# EAGLE library part ADS130B04 (library Public)
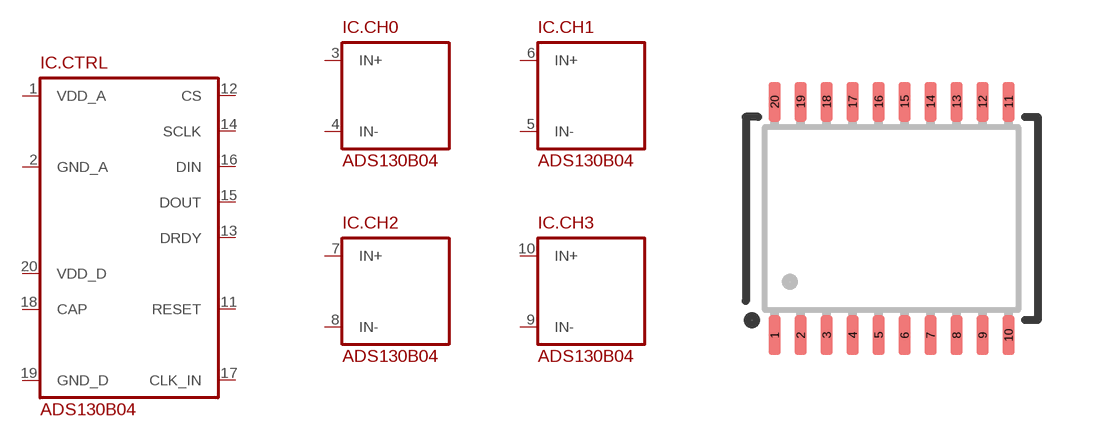
[diagram p85: symbol with the pads of TSSOP20; footprint TSSOP20]

Designator prefix IC; gates .CTRL=ADS130B04 .CH0=ADC_CHANNEL .CH1=ADC_CHANNEL .CH2=ADC_CHANNEL .CH3=ADC_CHANNEL

## ADS130B04  [TSSOP20]
1  .CTRL:VDD_A
2  .CTRL:GND_A
3  .CH0:IN+
4  .CH0:IN-
5  .CH1:IN-
6  .CH1:IN+
7  .CH2:IN+
8  .CH2:IN-
9  .CH3:IN-
10  .CH3:IN+
11  .CTRL:RESET
12  .CTRL:CS
13  .CTRL:DRDY
14  .CTRL:SCLK
15  .CTRL:DOUT
16  .CTRL:DIN
17  .CTRL:CLK_IN
18  .CTRL:CAP
19  .CTRL:GND_D
20  .CTRL:VDD_D

## Footprint TSSOP20 (pad centres in mm)
Thin Shrink Small Outline Plastic 20 MAX3223-MAX3243.pdf
smd 0.305 x 0.991: 1 -2.925,-2.918; 2 -2.275,-2.918; 3 -1.625,-2.918; 4 -0.975,-2.918; 5 -0.325,-2.918; 6 0.325,-2.918; 7 0.975,-2.918; 8 1.625,-2.918; 9 2.275,-2.918; 10 2.925,-2.918; 11 2.925,2.918; 12 2.275,2.918; 13 1.625,2.918; 14 0.975,2.918; 15 0.325,2.918; 16 -0.325,2.918; 17 -0.975,2.918; 18 -1.625,2.918; 19 -2.275,2.918; 20 -2.925,2.918